# Altium footprint library MSS1038-183MLB.PCBLIB: 1 footprints
Each footprint in its own frame and in the unit in brackets; x right, y up, seen from the top. Pads: shape width x height; smd on the part's side, far side on the other; paste and mask are expansions set on the pad; w line width, h text height; cw(c..) or ccw(c..) is an arc to the next point about the centre after c.
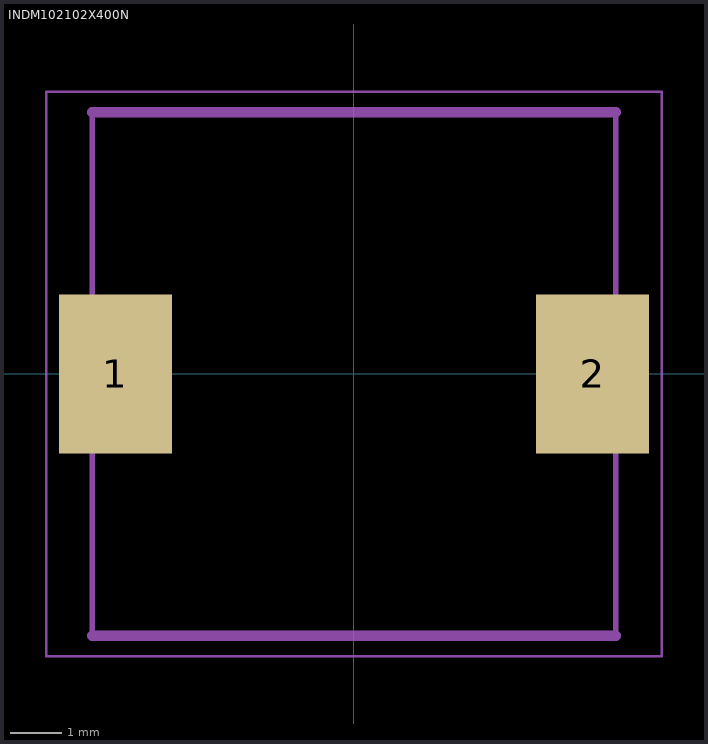
[diagram p0: the footprint, top view; thin cyan lines are the x and y axes]

## INDM102102X400N [mm]
pads (2):
  rect 2.2x3.1 smd: 1(-4.65,0) 2(4.65,0)
Mechanical 8:
  lines w0.05: -6,-5.5 6,-5.5 6,5.5 -6,5.5 -6,-5.5
  lines w0.1: -5.1,-5.1 5.1,-5.1 5.1,5.1 -5.1,5.1 -5.1,-5.1
Mechanical 22:
  lines w0.2: -5.1,-5.1 5.1,-5.1 ; -5.1,5.1 5.1,5.1